# Altium integrated library Power_IntLib.IntLib: 36 symbols
Pins are listed as number, name and electrical type; pins without a type are passive.

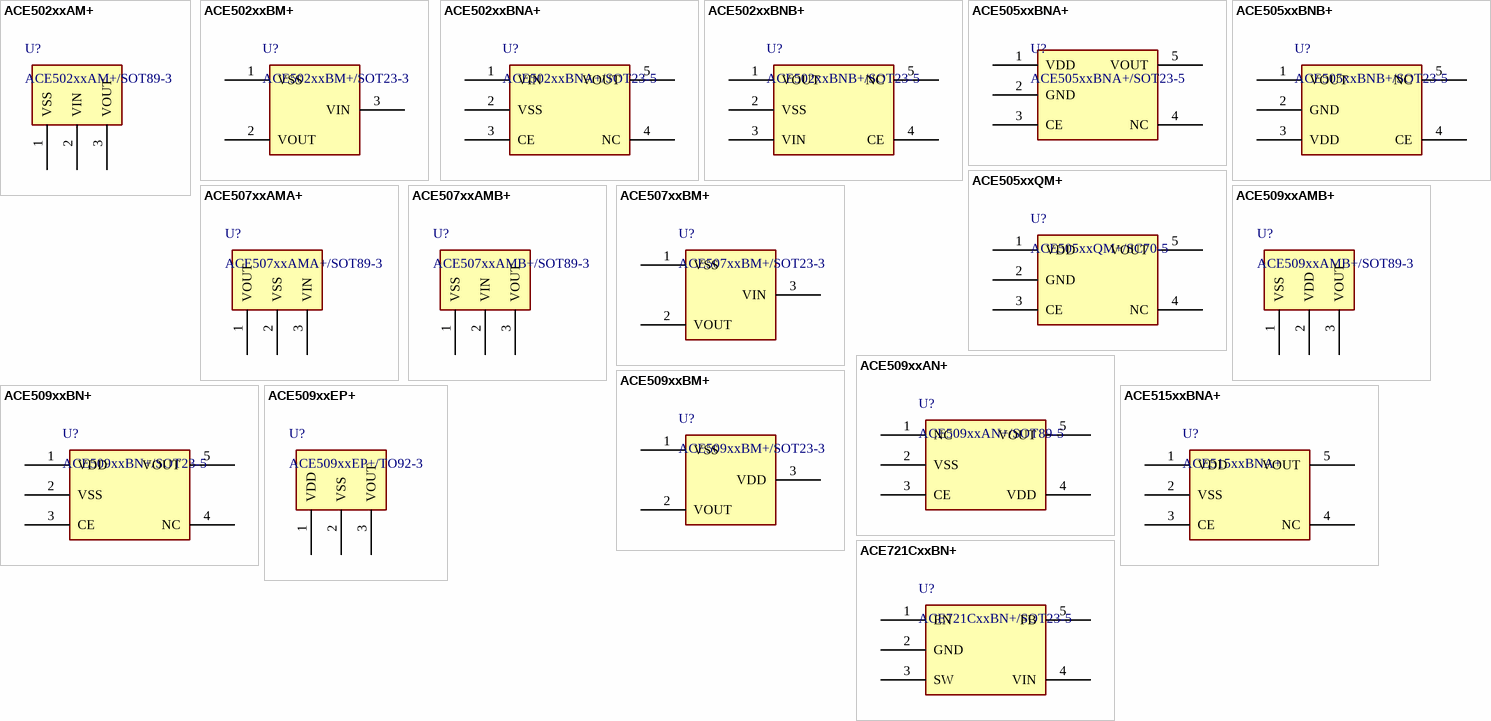
[diagram p0: symbols ACE502xxAM+ to ACE721CxxBN+]

## ACE502xxAM+
designator U?, comment ACE502xxAM+/SOT89-3
400mA CMOS Low Dropout Voltage Low consumption Regulator
footprint SOT89-3 (SOT89-3; SOT-89-3; 3 Leads; Body 4.6 x 5.8 mm, inc. leads (LxW max))
pins: 1 VSS (power), 2 VIN (power), 3 VOUT (power)

## ACE502xxBM+
designator U?, comment ACE502xxBM+/SOT23-3
400mA CMOS Low Dropout Voltage Low consumption Regulator
footprint SOT23-3 (SOT-23-3;SOT23-3;)
pins: 1 VSS (power), 2 VOUT (power), 3 VIN (power)

## ACE502xxBNA+
designator U?, comment ACE502xxBNA+/SOT23-5
400mA CMOS Low Dropout Voltage Low consumption Regulator
footprint SOT23-5 (SOT23-5; SOT-23-5; 5 Leads; Body 3.0 x 2.8 mm, inc. leads (LxW max))
pins: 1 VIN (power), 2 VSS (power), 3 CE, 4 NC, 5 VOUT (power)

## ACE502xxBNB+
designator U?, comment ACE502xxBNB+/SOT23-5
400mA CMOS Low Dropout Voltage Low consumption Regulator
footprint SOT23-5 (SOT23-5; SOT-23-5; 5 Leads; Body 3.0 x 2.8 mm, inc. leads (LxW max))
pins: 1 VOUT (power), 2 VSS (power), 3 VIN (power), 4 CE, 5 NC

## ACE505xxBNA+
designator U?, comment ACE505xxBNA+/SOT23-5
Low noise 150mA LDO regulator
footprint SOT23-5 (SOT23-5; SOT-23-5; 5 Leads; Body 3.0 x 2.8 mm, inc. leads (LxW max))
pins: 1 VDD (power), 2 GND (power), 3 CE, 4 NC, 5 VOUT (power)

## ACE505xxBNB+
designator U?, comment ACE505xxBNB+/SOT23-5
Low noise 150mA LDO regulator
footprint SOT23-5 (SOT23-5; SOT-23-5; 5 Leads; Body 3.0 x 2.8 mm, inc. leads (LxW max))
pins: 1 VOUT (power), 2 GND (power), 3 VDD (power), 4 CE, 5 NC

## ACE505xxQM+
designator U?, comment ACE505xxQM+/SC70-5
Low noise 150mA LDO regulator
footprint SC70-5
pins: 1 VDD (power), 2 GND (power), 3 CE, 4 NC, 5 VOUT (power)

## ACE507xxAMA+
designator U?, comment ACE507xxAMA+/SOT89-3
Precise Low Dropout Voltage Regulator;
footprint SOT89-3 (SOT89-3; SOT-89-3; 3 Leads; Body 4.6 x 5.8 mm, inc. leads (LxW max))
pins: 1 VOUT (power), 2 VSS (power), 3 VIN (power)

## ACE507xxAMB+
designator U?, comment ACE507xxAMB+/SOT89-3
Precise Low Dropout Voltage Regulator;
footprint SOT89-3 (SOT89-3; SOT-89-3; 3 Leads; Body 4.6 x 5.8 mm, inc. leads (LxW max))
pins: 1 VSS (power), 2 VIN (power), 3 VOUT (power)

## ACE507xxBM+
designator U?, comment ACE507xxBM+/SOT23-3
Precise Low Dropout Voltage Regulator;
footprint SOT23-3 (SOT-23-3;SOT23-3;)
pins: 1 VSS (power), 2 VOUT (power), 3 VIN (power)

## ACE509xxAMB+
designator U?, comment ACE509xxAMB+/SOT89-3
Low noise, fast response 500mA LDO regulator;
footprint SOT89-3 (SOT89-3; SOT-89-3; 3 Leads; Body 4.6 x 5.8 mm, inc. leads (LxW max))
pins: 1 VSS (power), 2 VDD (power), 3 VOUT (power)

## ACE509xxAN+
designator U?, comment ACE509xxAN+/SOT89-5
Low noise, fast response 500mA LDO regulator;
pins: 1 NC, 2 VSS (power), 3 CE, 4 VDD (power), 5 VOUT (power)

## ACE509xxBM+
designator U?, comment ACE509xxBM+/SOT23-3
Low noise, fast response 500mA LDO regulator;
footprint SOT23-3 (SOT-23-3;SOT23-3;)
pins: 1 VSS (power), 2 VOUT (power), 3 VDD (power)

## ACE509xxBN+
designator U?, comment ACE509xxBN+/SOT23-5
Low noise, fast response 500mA LDO regulator;
footprint SOT23-5 (SOT23-5; SOT-23-5; 5 Leads; Body 3.0 x 2.8 mm, inc. leads (LxW max))
pins: 1 VDD (power), 2 VSS (power), 3 CE, 4 NC, 5 VOUT (power)

## ACE509xxEP+
designator U?, comment ACE509xxEP+/TO92-3
Low noise, fast response 500mA LDO regulator;
pins: 1 VDD (power), 2 VSS (power), 3 VOUT (power)

## ACE515xxBNA+
designator U?
Low Noise, fast response 300mA LDO regulator
pins: 1 VDD (power), 2 VSS (power), 3 CE, 4 NC, 5 VOUT (power)

## ACE721CxxBN+
designator U?, comment ACE721CxxBN+/SOT23-5
1A 1.5MHz 5.5V Synchronous Buck Converter;
footprint SOT23-5 (SOT23-5; SOT-23-5; 5 Leads; Body 3.0 x 2.8 mm, inc. leads (LxW max))
pins: 1 EN, 2 GND (power), 3 SW (power), 4 VIN (power), 5 FB


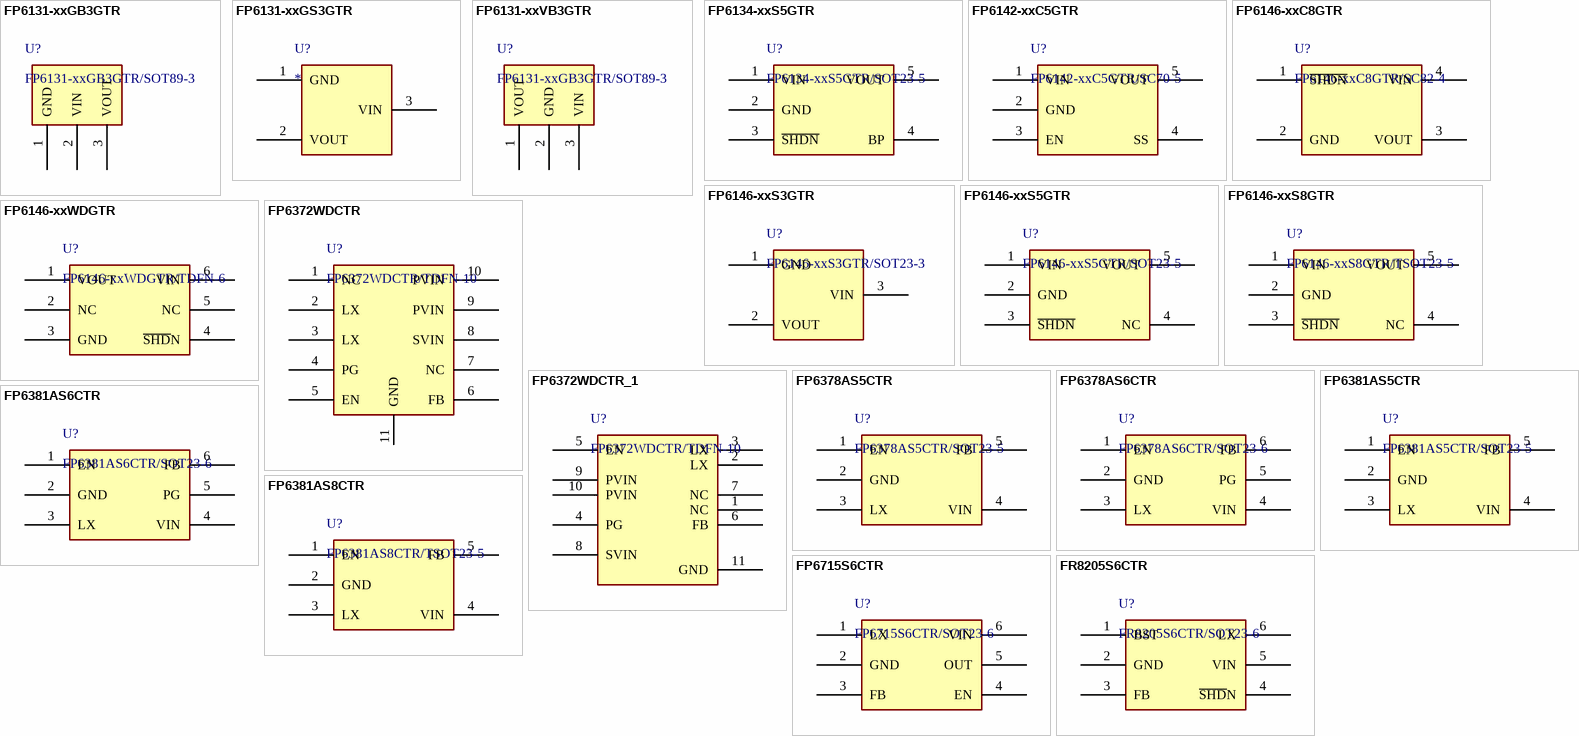
[diagram p1: symbols FP6131-xxGB3GTR to FR8205S6CTR]

## FP6131-xxGB3GTR
designator U?, comment FP6131-xxGB3GTR/SOT89-3
Fitipower 600mA Low Dropout Linear Regulator;
footprint SOT89-3 (SOT89-3; SOT-89-3; 3 Leads; Body 4.6 x 5.8 mm, inc. leads (LxW max))
pins: 1 GND (power), 2 VIN (power), 3 VOUT (power)

## FP6131-xxGS3GTR
designator U?
Fitipower 600mA Low Dropout Linear Regulator;
footprint SOT23-3 (SOT-23-3; SOT23-3; SOT-23; 3 Leads; Body 3.0 x 2.8 mm, inc. leads (LxW max))
pins: 1 GND (power), 2 VOUT (power), 3 VIN (power)

## FP6131-xxVB3GTR
designator U?, comment FP6131-xxGB3GTR/SOT89-3
Fitipower 600mA Low Dropout Linear Regulator;
footprint sot89-3 (SOT89-3; SOT-89-3; 3 Leads; Body 4.6 x 5.8 mm, inc. leads (LxW max))
pins: 1 VOUT (power), 2 GND (power), 3 VIN (power)

## FP6134-xxS5GTR
designator U?, comment FP6134-xxS5GTR/SOT23-5
Fitipower 600mA Low Dropout Linear Regulator with Shutdown;
footprint SOT23-5 (SOT23-5; SOT-23-5; 5 Leads; Body 3.0 x 2.8 mm, inc. leads (LxW max))
pins: 1 VIN (power), 2 GND (power), 3 ~{SHDN}, 4 BP, 5 VOUT (power)

## FP6142-xxC5GTR
designator U?, comment FP6142-xxC5GTR/SC70-5
Fitipower 500mA Low Noise LDO with  Soft-Start and Output Discharge Function;
footprint sc70-5
pins: 1 VIN (power), 2 GND (power), 3 EN, 4 SS, 5 VOUT (power)

## FP6146-xxC8GTR
designator U?, comment FP6146-xxC8GTR/SC82-4
Fitipower 300mA Low Noise High PSRR  LDO with Shutdown;
footprint SC82-4 (Footprint not found)
pins: 1 ~{SHDN}, 2 GND (power), 3 VOUT (power), 4 VIN (power)

## FP6146-xxS3GTR
designator U?, comment FP6146-xxS3GTR/SOT23-3
Fitipower 300mA Low Noise High PSRR  LDO with Shutdown;
footprint SOT23-3 (SOT-23-3; SOT23-3; SOT-23; 3 Leads; Body 3.0 x 2.8 mm, inc. leads (LxW max))
pins: 1 GND (power), 2 VOUT (power), 3 VIN (power)

## FP6146-xxS5GTR
designator U?, comment FP6146-xxS5GTR/SOT23-5
Fitipower 300mA Low Noise High PSRR  LDO with Shutdown;
footprint SOT23-5 (SOT23-5; SOT-23-5; 5 Leads; Body 3.0 x 2.8 mm, inc. leads (LxW max))
pins: 1 VIN (power), 2 GND (power), 3 ~{SHDN}, 4 NC, 5 VOUT (power)

## FP6146-xxS8GTR
designator U?, comment FP6146-xxS8GTR/TSOT23-5
Fitipower 300mA Low Noise High PSRR  LDO with Shutdown;
footprint TSOT23-5
pins: 1 VIN (power), 2 GND (power), 3 ~{SHDN}, 4 NC, 5 VOUT (power)

## FP6146-xxWDGTR
designator U?, comment FP6146-xxWDGTR/TDFN-6
Fitipower 300mA Low Noise High PSRR  LDO with Shutdown;
footprint TDFN-6 (1.6mmx1.6mm)
pins: 1 VOUT (power), 2 NC, 3 GND (power), 4 ~{SHD}N, 5 NC, 6 VIN (power)

## FP6372WDCTR
designator U?, comment FP6372WDCTR/TDFN-10
Fitipower High Efficiency 1MHz 3.5A  Synchronous Step Down Regulator
pins: 1 NC, 2 LX (power), 3 LX (power), 4 PG, 5 EN, 6 FB, 7 NC, 8 SVIN, 9 PVIN (power), 10 PVIN (power), 11 GND

## FP6372WDCTR_1
designator U?, comment FP6372WDCTR/TDFN-10
Fitipower High Efficiency 1MHz 3.5A  Synchronous Step Down Regulator
pins: 1 NC, 2 LX (power), 3 LX (power), 4 PG, 5 EN, 6 FB, 7 NC, 8 SVIN, 9 PVIN (power), 10 PVIN (power), 11 GND

## FP6378AS5CTR
designator U?, comment FP6378AS5CTR/SOT23-5
Fitipower High Efficiency 1MHz 2A  Synchronous Step Down Regulator
pins: 1 EN, 2 GND (power), 3 LX (power), 4 VIN (power), 5 FB

## FP6378AS6CTR
designator U?, comment FP6378AS6CTR/SOT23-6
Fitipower High Efficiency 1MHz 2A  Synchronous Step Down Regulator
pins: 1 EN, 2 GND (power), 3 LX (power), 4 VIN (power), 5 PG, 6 FB

## FP6381AS5CTR
designator U?, comment FP6381AS5CTR/SOT23-5
Fitipower High Efficiency 1.5MHz 1.2A  Synchronous Step Down Converter;
pins: 1 EN, 2 GND (power), 3 LX (power), 4 VIN (power), 5 FB

## FP6381AS6CTR
designator U?, comment FP6381AS6CTR/SOT23-6
Fitipower High Efficiency 1.5MHz 1.2A  Synchronous Step Down Converter;
pins: 1 EN, 2 GND (power), 3 LX (power), 4 VIN (power), 5 PG, 6 FB

## FP6381AS8CTR
designator U?, comment FP6381AS8CTR/TSOT23-5
Fitipower High Efficiency 1.5MHz 1.2A  Synchronous Step Down Converter;
pins: 1 EN, 2 GND (power), 3 LX (power), 4 VIN (power), 5 FB

## FP6715S6CTR
designator U?, comment FP6715S6CTR/SOT23-6
Fitipower 5V, 2.5A, 550KHz High Efficiency Low Ripple  Synchronous Step-Up Converter;
pins: 1 LX (power), 2 GND (power), 3 FB, 4 EN, 5 OUT (power), 6 VIN (power)

## FR8205S6CTR
designator U?, comment FR8205S6CTR/SOT23-6
Fitipower 18V, 3A, 500KHz Synchronous Step-Down  DC/DC Converter;
pins: 1 BST, 2 GND (power), 3 FB, 4 ~{SHD}N, 5 VIN (power), 6 LX (power)